# Altium footprint library DirtyLib.PcbLib: 3 footprints
Each footprint in its own frame and in the unit in brackets; x right, y up, seen from the top. Pads: shape width x height; smd on the part's side, far side on the other; paste and mask are expansions set on the pad; w line width, h text height; cw(c..) or ccw(c..) is an arc to the next point about the centre after c.
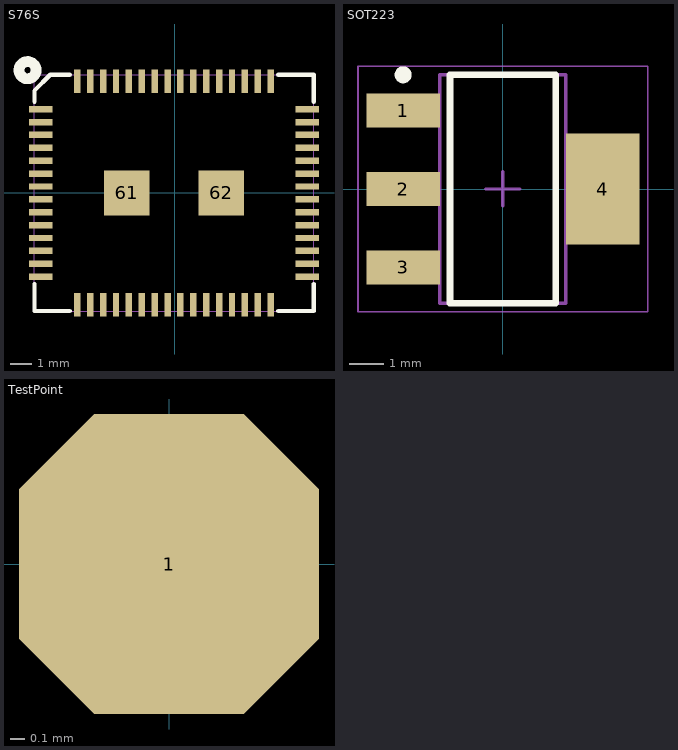
[diagram p0: the footprints below, top view; thin cyan lines are the x and y axes]

## S76S [mm] "ACSIP S76S Footprint"
pads (62):
  rect 1.1x0.3 smd mask+0.05: 1(-6.241,3.9) 2(-6.241,3.3) 3(-6.241,2.7) 4(-6.241,2.1) 5(-6.241,1.5) 6(-6.241,0.9) 7(-6.241,0.3) 8(-6.241,-0.3) 9(-6.241,-0.9) 10(-6.241,-1.5) 11(-6.241,-2.1) 12(-6.241,-2.7) 13(-6.241,-3.3) 14(-6.241,-3.9) 31(6.159,-3.9) 32(6.159,-3.3) 33(6.159,-2.7) 34(6.159,-2.1) 35(6.159,-1.5) 36(6.159,-0.9) 37(6.159,-0.3) 38(6.159,0.3) 39(6.159,0.9) 40(6.159,1.5) 41(6.159,2.1) 42(6.159,2.7) 43(6.159,3.3) 44(6.159,3.9)
  rect 0.3x1.1 smd mask+0.05: 15(-4.541,-5.2) 16(-3.941,-5.2) 17(-3.341,-5.2) 18(-2.741,-5.2) 19(-2.141,-5.2) 20(-1.541,-5.2) 21(-0.941,-5.2) 22(-0.341,-5.2) 23(0.259,-5.2) 24(0.859,-5.2) 25(1.459,-5.2) 26(2.059,-5.2) 27(2.659,-5.2) 28(3.259,-5.2) 29(3.859,-5.2) 30(4.459,-5.2) 45(4.459,5.2) 46(3.859,5.2) 47(3.259,5.2) 48(2.659,5.2) 49(2.059,5.2) 50(1.459,5.2) 51(0.859,5.2) 52(0.259,5.2) 53(-0.341,5.2) 54(-0.941,5.2) 55(-1.541,5.2) 56(-2.141,5.2) 57(-2.741,5.2) 58(-3.341,5.2) 59(-3.941,5.2) 60(-4.541,5.2)
  rect 2.1x2.1 smd mask+0.05: 61(-2.241,0) 62(2.159,0)
Top Overlay:
  circle w0.5: c-6.858,5.715 r0.4
  lines w0.2: -6.541,-4.242 -6.541,-5.5 -4.892,-5.5 ; -6.541,4.242 -6.541,4.762 -5.803,5.5 -4.892,5.5 ; 4.81,-5.5 6.459,-5.5 6.459,-4.242 ; 4.81,5.5 6.459,5.5 6.459,4.242
Mechanical 1:
  lines w0.05: -6.541,-5.5 -6.541,5.5 6.459,5.5 6.459,-5.5 -6.541,-5.5

## SOT223 [mm]
height 1.8
pads (4):
  rect 2.15x1 smd: 1(-2.925,2.3) 2(-2.925,0) 3(-2.925,-2.3)
  rect 2.15x3.25 smd: 4(2.925,0)
Top Overlay:
  circle w0.25: c-2.925,3.35 r0.125
  lines w0.2: -1.55,-3.35 1.55,-3.35 1.55,3.35 -1.55,3.35 -1.55,-3.35
Mechanical 13:
  lines w0.1: -1.85,-3.35 1.85,-3.35 1.85,3.35 -1.85,3.35 -1.85,-3.35
Mechanical 15:
  lines w0.05: -4.25,-3.6 4.25,-3.6 4.25,3.6 -4.25,3.6 -4.25,-3.6
  lines w0.1: -0.5,0 0.5,0 ; 0,-0.5 0,0.5
3D body "SOT230P700X180-4N.step": height 1.8, standoff 0, extent -3.5,-3.35 3.5,3.35

## TestPoint [mm]
pads (1):
  oct 2.1x2.1 smd mask+0.05: 1(0,0)